# Altium schematic symbol library osc.SchLib: 3 symbols
Pins are listed as number, name and electrical type; pins without a type are passive.

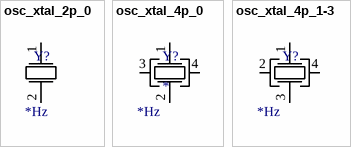
[diagram p0: symbols osc_xtal_2p_0 to osc_xtal_4p_1-3]

## osc_xtal_2p_0
designator Y?  Frequency: *Hz  (hidden comment: *)
Crystal Oscillator, 2 pin; Load Capacitance: *C; Tolerance: *ppm; ESR: *; Stability: *ppm
footprint ABLS_AT49_OSC (ABLS Crystal Oscillator)
footprint ABS25_OSC (Abracon Tuning Fork Oscillators)
pins: 1 20, 2 20

## osc_xtal_4p_0
designator Y?  Frequency: *Hz
Crystal Oscilaltor, 4 pin; Load Capacitance: *C; Tolerance: *ppm; ESR: *; Stability: *ppm
pins: 1, 2, 3 GND, 4 GND

## osc_xtal_4p_1-3
designator Y?  Frequency: *Hz  (hidden comment: *)
Crystal Oscilaltor, 4 pin, 1 & 3 connected, 2 & 4 floating; Load Capacitance: *C; Tolerance: *ppm; ESR: *; Stability: *ppm
pins: 1, 2 GND, 3, 4 GND